# EAGLE library part ESP-12E-V2 (library BRD-esp8266modules)
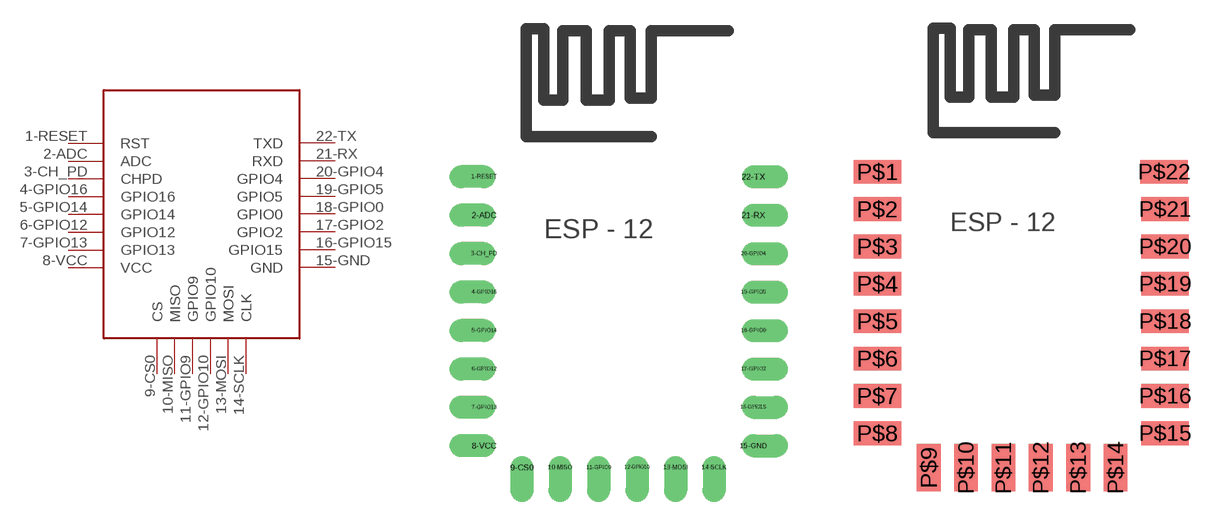
[diagram p16: symbol with the pads of ESP-12-E; footprints ESP-12-E, ESP-12F-SMD]

Designator prefix -

## ESP-12E-V2  [ESP-12-E]
1-RESET  RST
2-ADC  ADC
3-CH_PD  CHPD
4-GPIO16  GPIO16
5-GPIO14  GPIO14
6-GPIO12  GPIO12
7-GPIO13  GPIO13
8-VCC  VCC
9-CS0  CS
10-MISO  MISO
11-GPIO9  GPIO9
12-GPIO10  GPIO10
13-MOSI  MOSI
14-SCLK  CLK
15-GND  GND
16-GPIO15  GPIO15
17-GPIO2  GPIO2
18-GPIO0  GPIO0
19-GPIO5  GPIO5
20-GPIO4  GPIO4
21-RX  RXD
22-TX  TXD

## ESP-12E-V2SMD  [ESP-12F-SMD]
P$1  RST
P$2  ADC
P$3  CHPD
P$4  GPIO16
P$5  GPIO14
P$6  GPIO12
P$7  GPIO13
P$8  VCC
P$9  CS
P$10  MISO
P$11  GPIO9
P$12  GPIO10
P$13  MOSI
P$14  CLK
P$15  GND
P$16  GPIO15
P$17  GPIO2
P$18  GPIO0
P$19  GPIO5
P$20  GPIO4
P$21  RXD
P$22  TXD

## Footprint ESP-12-E (pad centres in mm)
ESP8266 Module ESP-12-E
drill 0.7 offset: 1-RESET -7.1,5.8; 2-ADC -7.1,3.8; 3-CH_PD -7.1,1.8; 4-GPIO16 -7.1,-0.2; 5-GPIO14 -7.1,-2.2; 6-GPIO12 -7.1,-4.2; 7-GPIO13 -7.1,-6.2; 8-VCC -7.1,-8.2; 9-CS0 -5.14,-9.33; 10-MISO -3.14,-9.33; 11-GPIO9 -1.14,-9.33; 12-GPIO10 0.86,-9.33; 13-MOSI 2.86,-9.33; 14-SCLK 4.86,-9.33; 15-GND 6.9,-8.2; 16-GPIO15 6.9,-6.2; 17-GPIO2 6.9,-4.2; 18-GPIO0 6.9,-2.2; 19-GPIO5 6.9,-0.2; 20-GPIO4 6.9,1.8; 21-RX 6.9,3.8; 22-TX 6.9,5.8

## Footprint ESP-12F-SMD (pad centres in mm)
smd 2.54 x 1.27: P$1 -7.9,3.8; P$2 -7.9,1.8; P$3 -7.9,-0.2; P$4 -7.9,-2.2; P$5 -7.9,-4.2; P$6 -7.9,-6.2; P$7 -7.9,-8.2; P$8 -7.9,-10.2; P$15 7.5,-10.2; P$16 7.5,-8.2; P$17 7.5,-6.2; P$18 7.5,-4.2; P$19 7.5,-2.2; P$20 7.5,-0.2; P$21 7.5,1.8; P$22 7.45,3.8
smd 1.27 x 2.54: P$9 -5.15,-12.05; P$10 -3.15,-12.05; P$11 -1.15,-12.05; P$12 0.85,-12.05; P$13 2.85,-12.05; P$14 4.85,-12.05